# EAGLE library part COMPORT-6PIN (library pinconn)
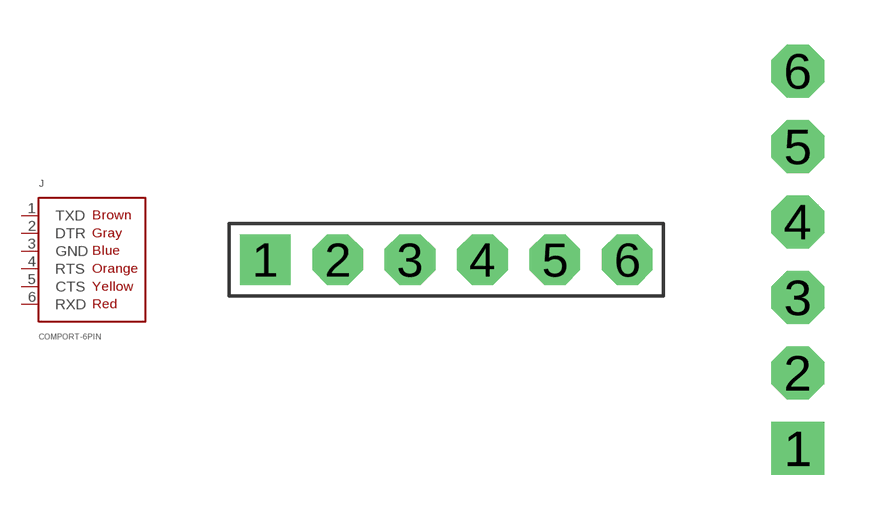
[diagram p1: symbol with the pads of CONN-6P; footprints CONN-6P, RS232-6PIN]

Designator prefix J

## COMPORT-6PIN-6P  [CONN-6P]
1  TXD  pas
2  DTR  pas
3  GND  pas
4  RTS  pas
5  CTS  pas
6  RXD  pas

## COMPORT-6PIN  [RS232-6PIN]
Pads as for CONN-6P

## Footprint CONN-6P (pad centres in mm)
drill 0.9 pad 1.778 square: 1 0,0
drill 0.9 pad 1.778 octagon: 2 2.54,0; 3 5.08,0; 4 7.62,0; 5 10.16,0; 6 12.7,0

## Footprint RS232-6PIN (pad centres in mm)
drill 0.9 pad 1.778 square: 1 0,0
drill 0.9 pad 1.778 octagon: 2 0,2.54; 3 0,5.08; 4 0,7.62; 5 0,10.16; 6 0,12.7